# Altium footprint library Revo_element.PcbLib: 178 footprints (part 9 of 12)
Each footprint in its own frame and in the unit in brackets; x right, y up, seen from the top. Pads: shape width x height; smd on the part's side, far side on the other; paste and mask are expansions set on the pad; w line width, h text height; cw(c..) or ccw(c..) is an arc to the next point about the centre after c.
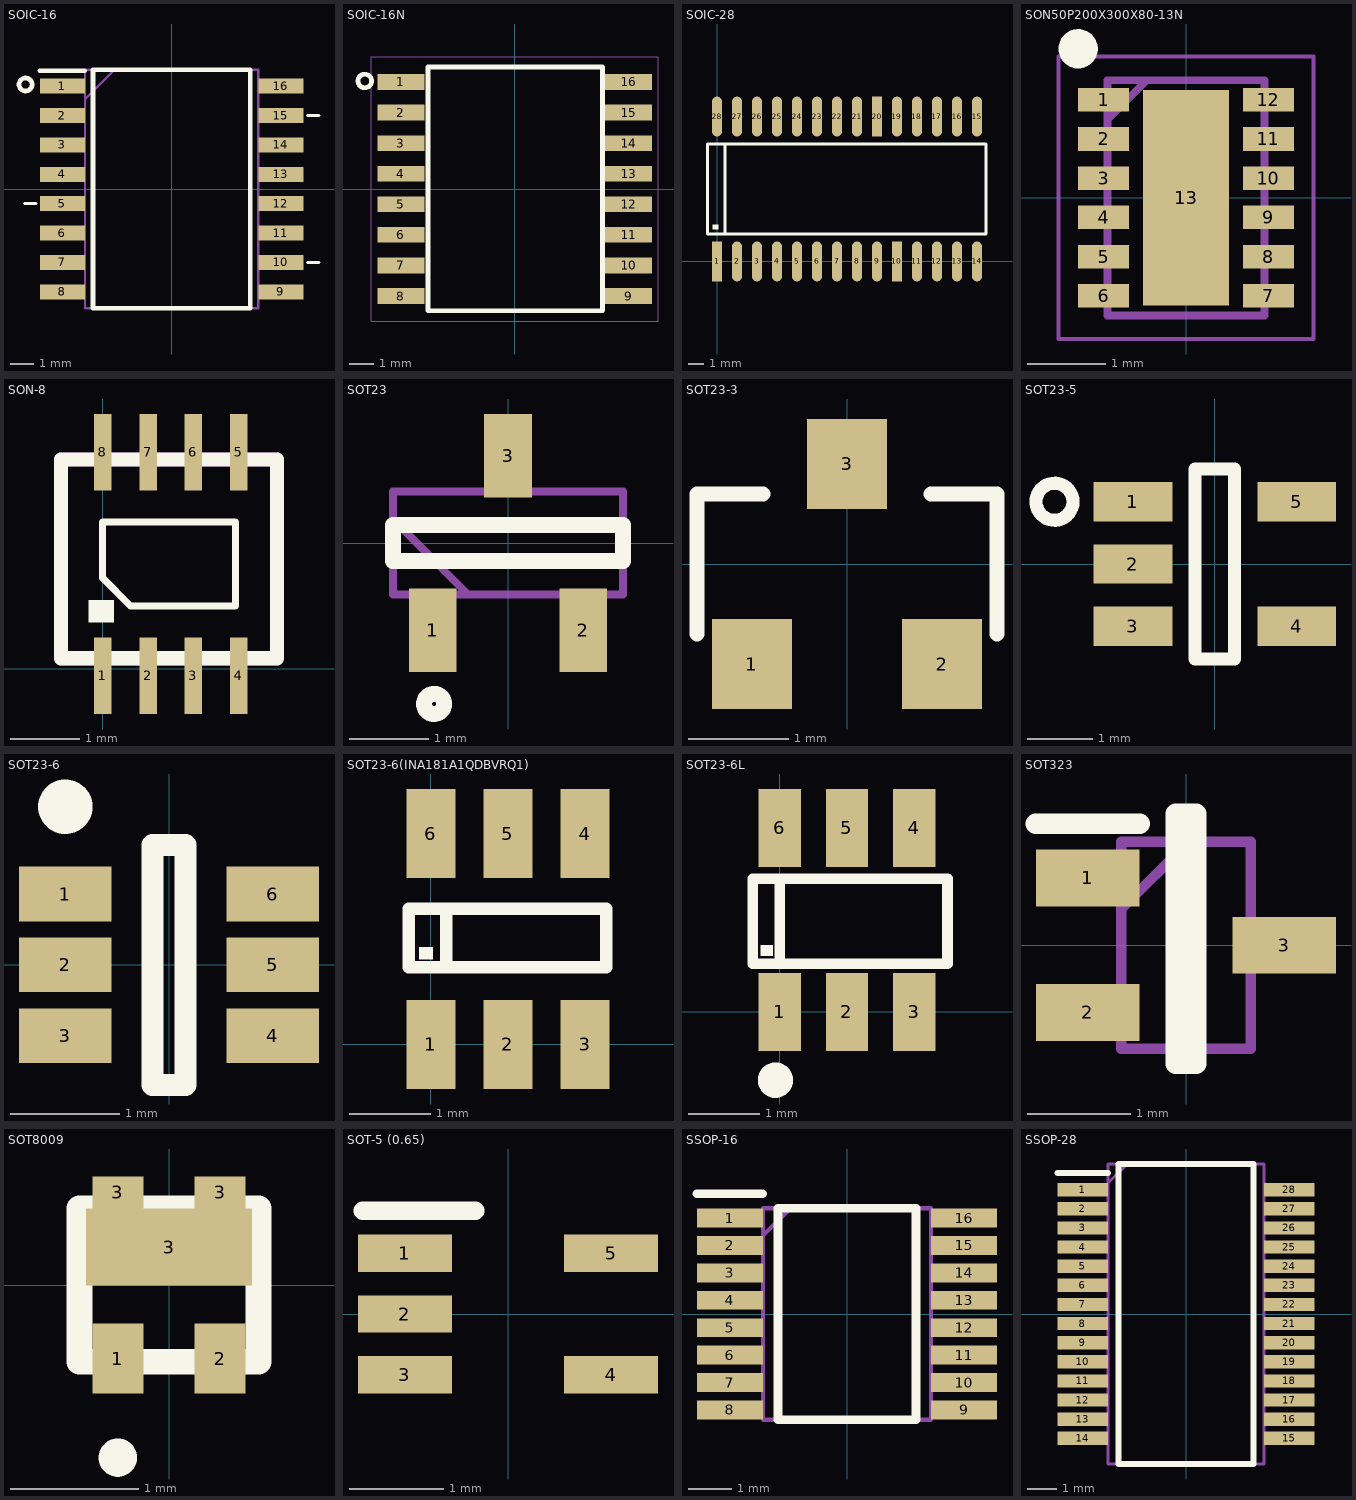
[diagram p8: the footprints below, top view; thin cyan lines are the x and y axes]

## SOIC-16 [mm]
pads (16):
  rect 1.95x0.65 smd: 1(-4.725,4.445) 2(-4.725,3.175) 3(-4.725,1.905) 4(-4.725,0.635) 5(-4.725,-0.635) 6(-4.725,-1.905) 7(-4.725,-3.175) 8(-4.725,-4.445) 9(4.725,-4.445) 10(4.725,-3.175) 11(4.725,-1.905) 12(4.725,-0.635) 13(4.725,0.635) 14(4.725,1.905) 15(4.725,3.175) 16(4.725,4.445)
Top Overlay:
  circle w0.2: c-6.318,4.518 r0.283
  lines w0.127: -6.372,-0.63 -5.872,-0.63 ; 5.872,-3.18 6.372,-3.18 ; 5.872,3.17 6.372,3.17
  lines w0.2: -5.7,5.12 -3.75,5.12 ; -3.4,-5.15 -3.4,5.15 3.4,5.15 3.4,-5.15 -3.4,-5.15
Mechanical 13:
  lines w0.1: -3.75,3.88 -2.48,5.15 ; -3.75,-5.15 -3.75,5.15 3.75,5.15 3.75,-5.15 -3.75,-5.15
3D body "ISO7731BDWR.stp": height 2.59, standoff 0, extent -5.167,-5.15 5.167,5.15

## SOIC-16N [mm]
pads (16):
  rect 1.95x0.65 smd: 1(-4.725,4.445) 2(-4.725,3.175) 3(-4.725,1.905) 4(-4.725,0.635) 5(-4.725,-0.635) 6(-4.725,-1.905) 7(-4.725,-3.175) 8(-4.725,-4.445) 9(4.725,-4.445) 10(4.725,-3.175) 11(4.725,-1.905) 12(4.725,-0.635) 13(4.725,0.635) 14(4.725,1.905) 15(4.725,3.175) 16(4.725,4.445)
Top Overlay:
  circle w0.2: c-6.227,4.486 r0.283
  lines w0.2: -3.604,-5.055 3.651,-5.055 3.651,5.073 -3.604,5.073 -3.604,-5.055
Mechanical 15:
  lines w0.05: -5.95,-5.5 5.95,-5.5 5.95,5.5 -5.95,5.5 -5.95,-5.5
3D body "UCC21710QDWRQ1.stp": height 2.59, standoff 0, extent -5.167,-5.15 5.167,5.15

## SOIC-28 [mil]
pads (28):
  rect 24.97x100 smd: 1(0,0) 10(450,0) 20(400,362)
  oval 24.97x100 smd: 2(50,0) 3(100,0) 4(150,0) 5(200,0) 6(250,0) 7(300,0) 8(350,0) 9(400,0) 11(500,0) 12(550,0) 13(600,0) 14(650,0) 15(650,362) 16(600,362) 17(550,362) 18(500,362) 19(450,362) 21(350,362) 22(300,362) 23(250,362) 24(200,362) 25(150,362) 26(100,362) 27(50,362) 28(0,362)
Top Overlay:
  rectangle: -10.93,79.72 3.44,92.52
  lines w8: 20,70.37 20,292.5 ; -24.11,68.48 672.74,68.48 672.74,293.48 -24.11,293.48 -24.11,68.48
3D body "User Library-SOIC28-300.step": height 104.33, standoff 0, extent -27.56,-18.7 677.16,386.81

## SON50P200X300X80-13N [mm]
pads (13):
  rect 0.65x0.3 smd: 1(-1.05,1.25) 2(-1.05,0.75) 3(-1.05,0.25) 4(-1.05,-0.25) 5(-1.05,-0.75) 6(-1.05,-1.25) 7(1.05,-1.25) 8(1.05,-0.75) 9(1.05,-0.25) 10(1.05,0.25) 11(1.05,0.75) 12(1.05,1.25)
  rect 1.1x2.75 smd: 13(0,0)
Top Overlay:
  circle w0.25: c-1.375,1.9 r0.125
Mechanical 13:
  lines w0.1: -1,1 -0.5,1.5 ; -1,-1.5 -1,1.5 1,1.5 1,-1.5 -1,-1.5
Mechanical 15:
  lines w0.05: -1.625,-1.8 -1.625,1.8 1.625,1.8 1.625,-1.8 -1.625,-1.8
3D body "LM5155QDSSRQ1.stp": height 0.8, standoff 0, extent -1,-1.5 1,1.5

## SON-8 [mm]
pads (8):
  rect 0.25x1.1 smd: 1(0,-0.1) 2(0.65,-0.1) 3(1.3,-0.1) 4(1.95,-0.1) 5(1.95,3.1) 6(1.3,3.1) 7(0.65,3.1) 8(0,3.1)
Top Overlay:
  rectangle: -0.203,0.663 0.162,0.988
  lines w0.1: 0,1.3 0,2.1 1.9,2.1 1.9,0.9 0.4,0.9 0,1.3
  lines w0.203: -0.6,0.15 2.5,0.15 2.5,3 -0.6,3 -0.6,0.15
Mechanical 1:
  lines w0.203: -0.6,0.15 2.5,0.15 2.5,3 -0.6,3 -0.6,0.15

## SOT23 [mm]
pads (3):
  rect 0.6x1.05 smd: 1(-0.95,-1.1) 2(0.95,-1.1) 3(0,1.1)
Top Overlay:
  circle w0.2: c-0.931,-2.026 r0.127
  lines w0.2: -1.45,-0.225 1.45,-0.225 1.45,0.225 -1.45,0.225 -1.45,-0.225
Mechanical 13:
  lines w0.1: -1.45,0.3 -0.5,-0.65 ; -1.45,-0.65 1.45,-0.65 1.45,0.65 -1.45,0.65 -1.45,-0.65
3D body "BC807-40,215.stp": height 0.95, standoff 0, extent -1.452,-1.201 1.448,1.199

## SOT23-3 [mm] "ZRC250"
pads (3):
  rect 0.8x0.9 smd: 1(-0.95,-1) 2(0.95,-1) 3(0,1)
Top Overlay:
  lines w0.152: -1.5,-0.7 -1.5,0.7 -0.84,0.7 ; 0.84,0.7 1.5,0.7 1.5,-0.7
3D body "step_temp.STEP": height 1.2, standoff 0, extent -1.46,-1.2 1.46,1.2

## SOT23-5 [mm]
pads (5):
  rect 1.2x0.6 smd: 1(-1.25,0.95) 2(-1.25,0) 3(-1.25,-0.95) 4(1.25,-0.95) 5(1.25,0.95)
Top Overlay:
  circle w0.2: c-2.448,0.951 r0.283
  lines w0.2: -0.3,-1.45 -0.3,1.45 0.3,1.45 0.3,-1.45 -0.3,-1.45
3D body "TPS79118DBVR.stp": height 1.45, standoff 0, extent -1.4,-1.45 1.4,1.45

## SOT23-6 [mm] "SOT23, 6-Leads, Body 2.00x2.10mm, Pitch 0.65mm, IPC Medium Density"
height 1.1
pads (6):
  rect 0.85x0.5 smd: 1(-0.95,0.65) 2(-0.95,0) 3(-0.95,-0.65) 4(0.95,-0.65) 5(0.95,0) 6(0.95,0.65)
Top Overlay:
  circle w0.25: c-0.95,1.45 r0.125
  lines w0.2: -0.15,-1.1 0.15,-1.1 0.15,1.1 -0.15,1.1 -0.15,-1.1

## SOT23-6(INA181A1QDBVRQ1) [mm]
pads (6):
  rect 0.6x1.1 smd: 1(0,0) 2(0.95,0) 3(1.9,0) 4(1.9,2.6) 5(0.95,2.6) 6(0,2.6)
Top Overlay:
  rectangle: -0.15,1.05 0.025,1.2
  lines w0.152: 0.188,0.95 0.188,1.675 ; -0.275,0.95 -0.275,1.675 2.163,1.675 2.163,0.95 -0.275,0.95
3D body "User Library-SOT-23-6.step": height 1.19, standoff 0.1, extent -0.444,0.087 2.35,2.513

## SOT23-6L [mm]
pads (6):
  rect 0.6x1.1 smd: 1(0,0) 2(0.95,0) 3(1.9,0) 4(1.9,2.6) 5(0.95,2.6) 6(0,2.6)
Top Overlay:
  circle w0.25: c-0.061,-0.963 r0.125
  rectangle: -0.271,0.793 -0.096,0.943
  lines w0.152: 0,0.705 0,1.863 ; -0.381,0.682 2.369,0.682 2.369,1.881 -0.381,1.881 -0.381,0.682
3D body "User Library-SOT-23-6.step": height 1.09, standoff 0, extent -0.444,-0.063 2.35,2.363

## SOT323 [mm]
pads (3):
  rect 1x0.55 smd: 1(-0.95,0.65) 2(-0.95,-0.65) 3(0.95,0)
Top Overlay:
  lines w0.2: -1.45,1.175 -0.45,1.175 ; -0.1,-1.143 0.1,-1.143 0.1,1.27 -0.1,1.27 -0.1,-1.143
Mechanical 13:
  lines w0.1: -0.625,0.35 0.025,1 ; -0.625,-1 0.625,-1 0.625,1 -0.625,1 -0.625,-1
3D body "BAW56W,115.stp": height 0.95, standoff 0, extent -1.052,-1.049 1.048,1.051

## SOT8009 [mm]
pads (5):
  rect 0.4x0.55 smd: 1(-0.4,-0.575) 2(0.4,-0.575)
  rect 0.4x0.25 smd: 3(-0.4,0.725) 3(0.4,0.725)
  rect 1.3x0.6 smd: 3(0,0.297)
Top Overlay:
  lines w0.2: -0.4,-1.4 ccw(c-0.4,-1.35) -0.4,-1.3 ; -0.4,-1.4 cw(c-0.4,-1.35) -0.4,-1.3 ; -0.4,-1.4 ccw(c-0.4,-1.35) -0.4,-1.3 ; -0.7,-0.6 -0.7,0.6 0.7,0.6 0.7,-0.6 -0.7,-0.6
3D body "PESD2CANFD24V-QCZ.stp": height 0.6, standoff 0, extent -0.7,-0.81 0.7,0.825

## SOT-5 (0.65) [mm]
pads (5):
  rect 1x0.4 smd: 1(-1.1,0.65) 2(-1.1,0) 3(-1.1,-0.65) 4(1.1,-0.65) 5(1.1,0.65)
Top Overlay:
  lines w0.2: -1.55,1.1 -0.35,1.1
3D body "LMT87QDCKRQ1.stp": height 1, standoff 0, extent -1.05,-1 1.05,1

## SSOP-16 [mm]
pads (16):
  rect 1.528x0.435 smd: 1(-2.711,2.222) 2(-2.711,1.588) 3(-2.711,0.952) 4(-2.711,0.318) 5(-2.711,-0.318) 6(-2.711,-0.952) 7(-2.711,-1.588) 8(-2.711,-2.222) 9(2.711,-2.222) 10(2.711,-1.588) 11(2.711,-0.952) 12(2.711,-0.318) 13(2.711,0.318) 14(2.711,0.952) 15(2.711,1.588) 16(2.711,2.222)
Top Overlay:
  lines w0.2: -3.475,2.79 -1.948,2.79 ; -1.598,-2.452 1.598,-2.452 1.598,2.452 -1.598,2.452 -1.598,-2.452
Mechanical 13:
  lines w0.1: -1.948,1.818 -1.312,2.452 ; -1.948,-2.452 1.948,-2.452 1.948,2.452 -1.948,2.452 -1.948,-2.452
3D body "ADS7843E_2K5.stp": height 1.62, standoff 0, extent -3.011,-2.451 3.011,2.451

## SSOP-28 [mm]
pads (28):
  rect 1.725x0.45 smd: 1(-3.512,4.225) 2(-3.512,3.575) 3(-3.512,2.925) 4(-3.512,2.275) 5(-3.512,1.625) 6(-3.512,0.975) 7(-3.512,0.325) 8(-3.512,-0.325) 9(-3.512,-0.975) 10(-3.512,-1.625) 11(-3.512,-2.275) 12(-3.512,-2.925) 13(-3.512,-3.575) 14(-3.512,-4.225) 15(3.512,-4.225) 16(3.512,-3.575) 17(3.512,-2.925) 18(3.512,-2.275) 19(3.512,-1.625) 20(3.512,-0.975) 21(3.512,-0.325) 22(3.512,0.325) 23(3.512,0.975) 24(3.512,1.625) 25(3.512,2.275) 26(3.512,2.925) 27(3.512,3.575) 28(3.512,4.225)
Top Overlay:
  lines w0.2: -4.375,4.8 -2.65,4.8 ; -2.3,-5.1 2.3,-5.1 2.3,5.1 -2.3,5.1 -2.3,-5.1
Mechanical 13:
  lines w0.1: -2.65,4.45 -2,5.1 ; -2.65,-5.1 2.65,-5.1 2.65,5.1 -2.65,5.1 -2.65,-5.1
3D body "FT232RNL-TUBE.stp": height 2, standoff 0, extent -3.9,-5.1 3.9,5.1